# EAGLE library part XTPB-DMD-001-SMD (library XTrend)
XTP9B-DMS-001-SMD board footprint with smd connector
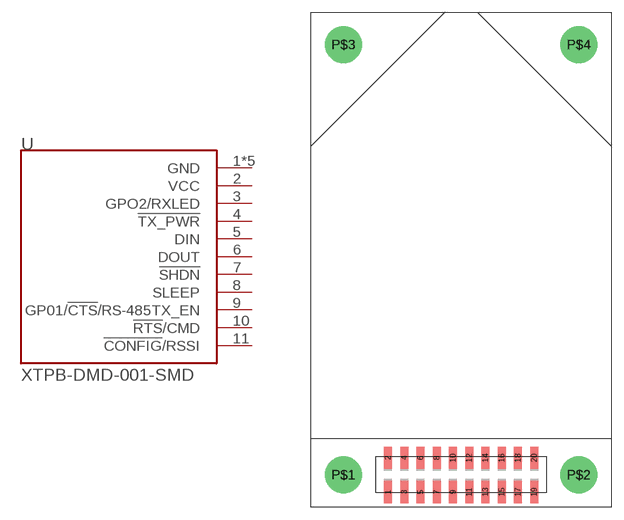
[diagram p1: symbol with the pads of XTP9B-DMS-001-SMD; footprint XTP9B-DMS-001-SMD]

Designator prefix -

## XTPB-DMD-001-SMD  [XTP9B-DMS-001-SMD]
1  GND  sup
2  VCC  sup
3  GPO2/RXLED  out
4  !TX_PWR!  out
5  DIN  in
6  DOUT  out
7  !SHDN!  in
8  SLEEP  in
9  GP01/!CTS!/RS-485TX_EN  out
10  !RTS!/CMD  in
11  !CONFIG!/RSSI
P$1  GND  sup
P$2  GND  sup
P$3  GND  sup
P$4  GND  sup

## Footprint XTP9B-DMS-001-SMD (pad centres in mm)
smd 1 x 2.75: 1 -9,-28.87; 2 -9,-24.67; 3 -7,-28.87; 4 -7,-24.67; 5 -5,-28.87; 6 -5,-24.67; 7 -3,-28.87; 8 -3,-24.67; 9 -1,-28.87; 10 -1,-24.67; 11 1,-28.87; 12 1,-24.67; 13 3,-28.87; 14 3,-24.67; 15 5,-28.87; 16 5,-24.67; 17 7,-28.87; 18 7,-24.67; 19 9,-28.87; 20 9,-24.67
drill 3.5: P$1 -14.5,-26.77; P$2 14.5,-26.77; P$3 -14.5,26.23; P$4 14.5,26.23